# EAGLE library part ALPHA16MM (library Pots - custom)
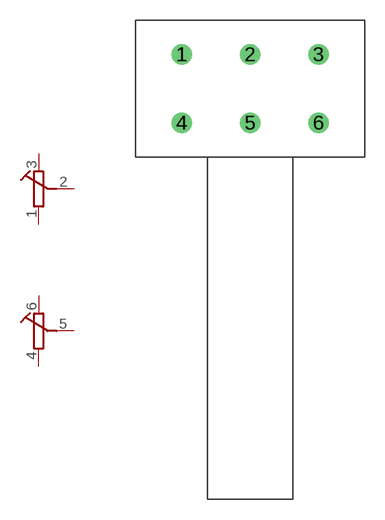
[diagram p1: symbol with the pads of ALPHA16MM; footprint ALPHA16MM]

Designator prefix -; gates G$1=NOBLE G$2=NOBLE

## ALPHA16MM  [ALPHA16MM]
1  G$1:GND
2  G$1:OUT
3  G$1:IN
4  G$2:GND
5  G$2:OUT
6  G$2:IN

## Footprint ALPHA16MM (pad centres in mm)
drill 1.016: 1 -5.08,2.54; 2 0,2.54; 3 5.08,2.54; 4 -5.08,-2.54; 5 0,-2.54; 6 5.08,-2.54